# Altium footprint library Footprints.PcbLib: 30 footprints (part 1 of 2)
Each footprint in its own frame and in the unit in brackets; x right, y up, seen from the top. Pads: shape width x height; smd on the part's side, far side on the other; paste and mask are expansions set on the pad; w line width, h text height; cw(c..) or ccw(c..) is an arc to the next point about the centre after c.
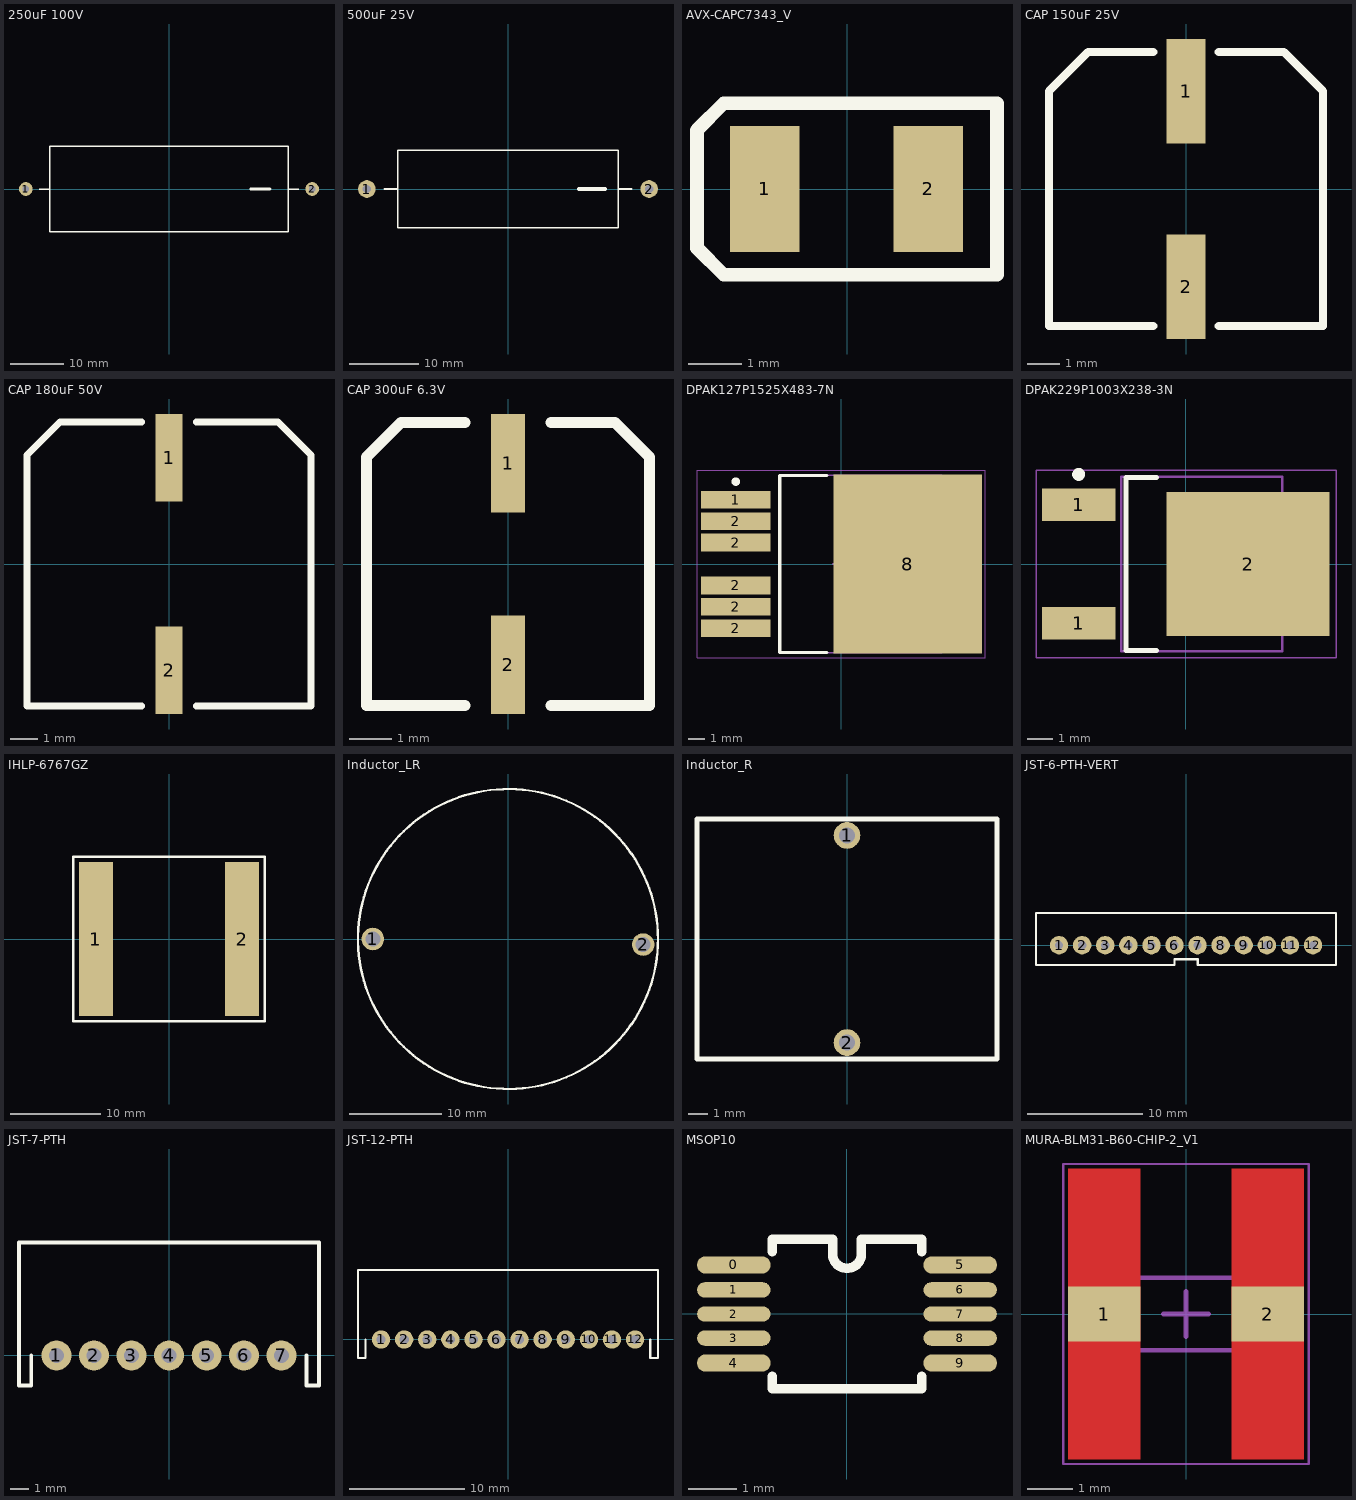
[diagram p0: the footprints below, top view; thin cyan lines are the x and y axes]

## 250uF 100V [mil]
pads (2):
  round 100 hole 48: 1(-1050,0) 2(1050,0)
Top Overlay:
  lines w10: -950,0 -875,0 ; 875,0 950,0 ; -875,0 -875,-313 875,-313 875,313 -875,313 -875,0
  lines w20: 600,0 740,0

## 500uF 25V [mil]
pads (2):
  round 100 hole 48: 1(-800,0) 2(800,0)
Top Overlay:
  lines w10: -700,0 -625,0 ; 625,0 700,0 ; -625,0 -625,219 625,219 625,-219 -625,-219 -625,0
  lines w20: 400,0 550,0

## AVX-CAPC7343_V [mm] "SMT Capacitor, 2 Leads, Body 7.3x4.3mm"
pads (2):
  rect 1.3x2.35 smd: 1(-1.535,0.001) 2(1.515,0.001)
Top Overlay:
  lines w0.254: -2.8,-1.1 -2.8,1.1 -2.299,1.601 2.8,1.597 2.8,-1.6 -2.3,-1.6 -2.8,-1.1
3D body: height 1.9, standoff 0, extent -2.1,-1.1 2.1,1.1

## CAP 150uF 25V [mm]
pads (2):
  rect 1.2x3.2 smd: 1(0,3) 2(0,-3)
Top Overlay:
  lines w0.254: -1,-4.2 -4.2,-4.2 -4.2,3 -3,4.2 -1,4.2 ; 1,-4.2 4.2,-4.2 4.2,3 3,4.2 1,4.2
3D body: height 10.5, standoff 0, extent -4.25,-5 4.25,5

## CAP 180uF 50V [mm]
pads (2):
  rect 1x3.2 smd: 1(0,3.9) 2(0,-3.9)
Top Overlay:
  lines w0.254: -1,-5.2 -5.2,-5.2 -5.2,4 -4,5.2 -1,5.2 ; 1,-5.2 5.2,-5.2 5.2,4 4,5.2 1,5.2
3D body: height 10.2, standoff 0, extent -5.2,-5.451 5.1,5.449

## CAP 300uF 6.3V [mm]
pads (2):
  rect 0.8x2.3 smd: 1(0,2.35) 2(0,-2.35)
Top Overlay:
  lines w0.254: -1,-3.3 -3.3,-3.3 -3.3,2.5 -2.5,3.3 -1,3.3 ; 1,-3.3 3.3,-3.3 3.3,2.5 2.5,3.3 1,3.3
3D body: height 5.5, standoff 0, extent -3.4,-3.9 3.4,3.9

## DPAK127P1525X483-7N [mm] "D2-PAK, 7-Pads, Body 7.93x8.63mm (max), IPC Medium Density"
height 4.83
pads (7):
  rect 4.15x1.05 smd mask+0.051: 1(-6.25,3.81) 2(-6.25,-3.81) 2(-6.25,-2.54) 2(-6.25,-1.27) 2(-6.25,1.27) 2(-6.25,2.54)
  rect 8.8x10.6 smd: 8(3.95,0)
Top Overlay:
  circle w0.25: c-6.25,4.885 r0.125
  lines w0.2: -0.85,-5.25 -3.65,-5.25 -3.65,5.25 -0.85,5.25
Mechanical 13:
  lines w0.1: -3.65,-5.275 -3.65,5.275 6,5.275 6,-5.275 -3.65,-5.275
Mechanical 15:
  lines w0.05: -8.55,-5.55 -8.55,5.55 8.55,5.55 8.55,-5.55 -8.55,-5.55
  lines w0.1: -0.5,0 0.5,0 ; 0,-0.5 0,0.5
3D body: height 4.2, standoff 0, extent -7.004,-5 8,5

## DPAK229P1003X238-3N [mm] "D-PAK, 3-Pads, Body 6.21x6.73mm (max), IPC Medium Density"
height 2.38
pads (3):
  rect 2.85x1.25 smd: 1(-4.15,-2.29) 1(-4.15,2.29)
  rect 6.3x5.55 smd: 2(2.4,0)
Top Overlay:
  circle w0.25: c-4.15,3.465 r0.125
  lines w0.2: -1.15,-3.35 -2.325,-3.35 -2.325,3.35 -1.15,3.35
Mechanical 13:
  lines w0.1: -2.5,-3.375 3.72,-3.375 3.72,3.375 -2.5,3.375 -2.5,-3.375
Mechanical 15:
  lines w0.05: -5.8,-3.625 5.8,-3.625 5.8,3.625 -5.8,3.625 -5.8,-3.625
  lines w0.1: -0.5,0 0.5,0 ; 0,-0.5 0,0.5

## IHLP-6767GZ [mil]
pads (2):
  rect 150x675 smd: 1(-320,0) 2(320,0)
Top Overlay:
  lines w10: -420,-360 -420,167.5 -420,360 420,360 420,-360 -420,-360
3D body: height 196.85, standoff 0, extent -330.71,-330.71 330.71,330.71

## Inductor_LR [mm]
pads (2):
  round 2.43 hole 1.63: 1(-14.6,0) 2(14.6,-0.6)
Top Overlay:
  circle w0.254: c0,0 r16.2

## Inductor_R [mm]
pads (2):
  round 1.38 hole 0.83: 1(0,5.35) 2(0,-5.35)
Top Overlay:
  lines w0.254: -7.75,-6.2 7.75,-6.2 7.75,6.2 -7.75,6.2 -7.75,-6.2

## JST-6-PTH-VERT [mil]
pads (12):
  round 63 hole 28: 1(-433.07,0) 2(-354.33,0) 3(-275.59,0) 4(-196.59,0) 5(-117.59,0) 6(-39.37,0) 7(39.37,0) 8(118.11,0) 9(196.85,0) 10(275.85,0) 11(354.85,0) 12(433.07,0)
Top Overlay:
  lines w8: -511.81,-67.84 -511.81,110 511.81,110 511.81,-67.84 40,-67.84 40,-48.16 -39.37,-48.16 -39.37,-67.84 -511.81,-67.84
3D body: height 236.22, standoff -133.86, extent -511.81,-70.87 507.87,106.3

## JST-7-PTH [mil]
pads (7):
  round 63 hole 31.5: 1(-236.48,0) 2(-157.74,0) 3(-79,0) 4(0,0) 5(79,0) 6(157.22,0) 7(235.96,0)
Top Overlay:
  lines w8: -315.22,237 -315.22,-62.99 -289.63,-62.99 -289.63,0 ; -314.96,237 314.96,237 314.96,-62.99 288.96,-62.99 288.96,0
3D body: height 197.83, standoff -77.76, extent -356.3,-7.87 350.39,251.97

## JST-12-PTH [mil]
pads (12):
  round 63 hole 31.5: 1(-433.07,0) 2(-354.33,0) 3(-275.59,0) 4(-196.59,0) 5(-117.59,0) 6(-39.37,0) 7(39.37,0) 8(118.11,0) 9(197.11,0) 10(276.11,0) 11(354.59,0) 12(433.59,0)
Top Overlay:
  lines w8: -486.22,0 -486.22,-62.99 -511.81,-62.99 -511.81,237 511.81,237 511.81,-62.99 485.81,-62.99 485.81,0

## MSOP10 [mm]
pads (10):
  oval 1.53x0.36 smd mask+0.076: 0(-2.352,1.02) 4(-2.352,-1.02) 5(2.353,1.02) 9(2.353,-1.02)
  oval 1.53x0.32 smd mask+0.076: 1(-2.352,0.5) 2(-2.352,0) 3(-2.352,-0.5) 6(2.353,0.5) 7(2.353,0) 8(2.353,-0.5)
Top Overlay:
  lines w0.2: -1.55,-1.3 -1.55,-1.55 1.55,-1.55 1.55,-1.3 ; -1.55,1.3 -1.55,1.55 -0.3,1.55 -0.3,1.25 ccw(c0,1.25) 0.3,1.25 0.3,1.55 1.55,1.55 1.55,1.3
3D body: height 1, standoff 0, extent -1.5,-1.5 1.5,1.5

## MURA-BLM31-B60-CHIP-2_V1 [mm] "Hand Drawn, 2-Leads, Body 3.2x1.6mm, Pitch 3.6mm, 18um Land Pad Thickness"
height 1.3
pads (2):
  rect 1.6x1.2 smd mask+0: 1(-1.8,0) 2(1.8,0)
Top Layer:
  rectangle: -2.6,-3.2 -1,3.2
  region: 2.6,3.2 1,3.2 1,-3.2 2.6,-3.2
Mechanical 6:
  text "Land Pattern Adapted for 18um Land Pad Thickness" at -2.275,3.5 h0.1
Mechanical 13:
  lines w0.1: -1.6,-0.8 1.6,-0.8 1.6,0.8 -1.6,0.8 -1.6,-0.8
Mechanical 15:
  lines w0.05: -2.7,-3.3 2.7,-3.3 2.7,3.3 -2.7,3.3 -2.7,-3.3
  lines w0.1: -0.5,0 0.5,0 ; 0,-0.5 0,0.5
3D body: height 1.3, standoff 0, extent -1.6,-0.8 1.6,0.8